# Altium footprint library UFDFPN5.PcbLib: 1 footprints
Each footprint in its own frame and in the unit in brackets; x right, y up, seen from the top. Pads: shape width x height; smd on the part's side, far side on the other; paste and mask are expansions set on the pad; w line width, h text height; cw(c..) or ccw(c..) is an arc to the next point about the centre after c.
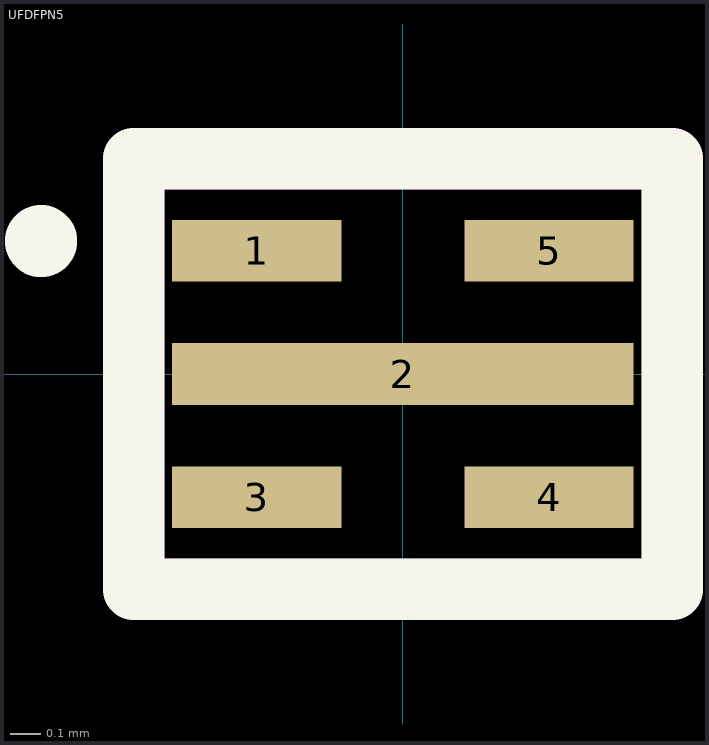
[diagram p0: the footprint, top view; thin cyan lines are the x and y axes]

## UFDFPN5 [mm]
pads (5):
  rect 0.55x0.2 smd: 1(-0.475,0.4) 3(-0.475,-0.4) 4(0.475,-0.4) 5(0.475,0.4)
  rect 1.5x0.2 smd: 2(0,0)
Top Overlay:
  circle w0.2: c-1.176,0.432 r0.017
  lines w0.2: -0.875,-0.7 0.875,-0.7 0.875,0.7 -0.875,0.7 -0.875,-0.7
Mechanical 15:
  lines w0.2: -0.875,-0.7 -0.875,0.7 0.875,0.7 0.875,-0.7 -0.875,-0.7
3D body: height 0.55, standoff 0, extent -0.85,-0.7 0.85,0.7
3D body: height 4.57, standoff -4.57, extent 0,0 0,0